# Altium footprint library IntegratedCircuitsFootprints.PcbLib: 5 footprints
Each footprint in its own frame and in the unit in brackets; x right, y up, seen from the top. Pads: shape width x height; smd on the part's side, far side on the other; paste and mask are expansions set on the pad; w line width, h text height; cw(c..) or ccw(c..) is an arc to the next point about the centre after c.
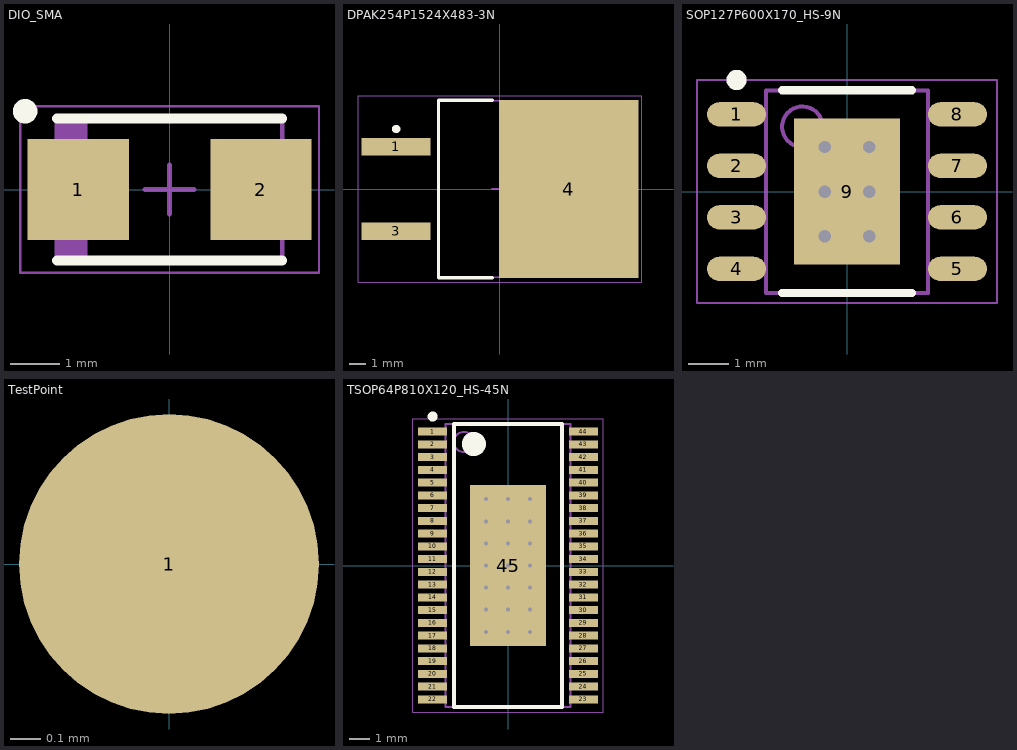
[diagram p0: the footprints below, top view; thin cyan lines are the x and y axes]

## DIO_SMA [mm] "Molded Diode, 2-Leads, Body 4.30x2.70mm, IPC Medium Density"
height 2.44
pads (2):
  rect 2.07x2.06 smd: 1(-1.865,0) 2(1.865,0)
Top Overlay:
  circle w0.25: c-2.95,1.6 r0.125
  lines w0.2: -2.3,-1.45 2.3,-1.45 ; -2.3,1.45 2.3,1.45
Mechanical 13:
  rectangle: -2.3,-1.45 -1.681,1.45
  lines w0.1: -2.3,-1.45 -2.3,1.45 2.3,1.45 2.3,-1.45 -2.3,-1.45
Mechanical 15:
  lines w0.05: -3.05,-1.7 -3.05,1.7 3.05,1.7 3.05,-1.7 -3.05,-1.7
  lines w0.1: -0.5,0 0.5,0 ; 0,-0.5 0,0.5
3D body "DIO_SMA.step": height 2.44, standoff 0, extent -2.52,-1.45 2.52,1.45

## DPAK254P1524X483-3N [mm] "D2-PAK, 3-Pads, Body 7.93x8.70mm (max), IPC Medium Density"
height 4.83
pads (3):
  rect 4.15x1.05 smd: 1(-6.25,2.54) 3(-6.25,-2.54)
  rect 8.4x10.75 smd: 4(4.15,0)
Top Overlay:
  circle w0.25: c-6.25,3.615 r0.125
  lines w0.2: -0.45,-5.35 -3.7,-5.35 -3.7,5.35 -0.45,5.35
Mechanical 13:
  lines w0.1: -3.7,-5.325 5.95,-5.325 5.95,5.325 -3.7,5.325 -3.7,-5.325
Mechanical 15:
  lines w0.05: -8.55,-5.625 8.55,-5.625 8.55,5.625 -8.55,5.625 -8.55,-5.625
  lines w0.1: -0.5,0 0.5,0 ; 0,-0.5 0,0.5
3D body "DPAK254P1524X483-3N.step": height 4.83, standoff 0, extent -7.405,-5.325 7.84,5.325

## SOP127P600X170_HS-9N [mm] "SOP, 8-Leads, Body 4.90x3.90mm, Pitch 1.27mm, Thermal Pad 3.60x2.61mm, IPC Medium Density"
height 1.7
pads (9):
  oval 1.45x0.6 smd: 1(-2.725,1.905) 2(-2.725,0.635) 3(-2.725,-0.635) 4(-2.725,-1.905) 5(2.725,-1.905) 6(2.725,-0.635) 7(2.725,0.635) 8(2.725,1.905)
  rect 2.61x3.6 smd: 9(0,0)
via -0.55,1.1 diameter 0.61 hole 0.305
via 0.55,1.1 diameter 0.61 hole 0.305
via -0.55,0 diameter 0.61 hole 0.305
via 0.55,0 diameter 0.61 hole 0.305
via -0.55,-1.1 diameter 0.61 hole 0.305
via 0.55,-1.1 diameter 0.61 hole 0.305
Top Overlay:
  circle w0.25: c-2.725,2.755 r0.125
  lines w0.2: -1.6,-2.5 1.6,-2.5 ; -1.6,2.5 1.6,2.5
Mechanical 13:
  circle w0.1: c-1.1,1.6 r0.5
  lines w0.1: -2,-2.5 -2,2.5 2,2.5 2,-2.5 -2,-2.5
Mechanical 15:
  lines w0.05: -3.7,-2.75 -3.7,2.75 3.7,2.75 3.7,-2.75 -3.7,-2.75
  lines w0.1: -0.5,0 0.5,0 ; 0,-0.5 0,0.5
3D body "SOP127P600X170_HS-9N.step": height 1.7, standoff 0, extent -3,-2.5 3,2.5

## TestPoint [mm] "1mm"
pads (1):
  round 1 smd mask+0: 1(0,0)

## TSOP64P810X120_HS-45N [mm] "TSOP, 44-Leads, Body 14.00x6.10mm, Pitch 0.64mm, Thermal Pad 8.00x3.80mm, IPC Medium Density"
height 1.2
pads (45):
  rect 1.45x0.4 smd: 1(-3.75,6.667) 2(-3.75,6.032) 3(-3.75,5.397) 4(-3.75,4.763) 5(-3.75,4.127) 6(-3.75,3.492) 7(-3.75,2.857) 8(-3.75,2.222) 9(-3.75,1.587) 10(-3.75,0.953) 11(-3.75,0.318) 12(-3.75,-0.318) 13(-3.75,-0.953) 14(-3.75,-1.587) 15(-3.75,-2.222) 16(-3.75,-2.857) 17(-3.75,-3.492) 18(-3.75,-4.127) 19(-3.75,-4.763) 20(-3.75,-5.397) 21(-3.75,-6.032) 22(-3.75,-6.667) 23(3.75,-6.667) 24(3.75,-6.032) 25(3.75,-5.397) 26(3.75,-4.763) 27(3.75,-4.127) 28(3.75,-3.492) 29(3.75,-2.857) 30(3.75,-2.222) 31(3.75,-1.587) 32(3.75,-0.953) 33(3.75,-0.318) 34(3.75,0.318) 35(3.75,0.953) 36(3.75,1.587) 37(3.75,2.222) 38(3.75,2.857) 39(3.75,3.492) 40(3.75,4.127) 41(3.75,4.763) 42(3.75,5.397) 43(3.75,6.032) 44(3.75,6.667)
  rect 3.8x8 smd: 45(0,0)
via -1.1,3.3 diameter 0.5 hole 0.2
via 0,3.3 diameter 0.5 hole 0.2
via 1.1,3.3 diameter 0.5 hole 0.2
via -1.1,2.2 diameter 0.5 hole 0.2
via 0,2.2 diameter 0.5 hole 0.2
via 1.1,2.2 diameter 0.5 hole 0.2
via -1.1,1.1 diameter 0.5 hole 0.2
via 0,1.1 diameter 0.5 hole 0.2
via 1.1,1.1 diameter 0.5 hole 0.2
via -1.1,0 diameter 0.5 hole 0.2
via 0,0 diameter 0.5 hole 0.2
via 1.1,0 diameter 0.5 hole 0.2
via -1.1,-1.1 diameter 0.5 hole 0.2
via 0,-1.1 diameter 0.5 hole 0.2
via 1.1,-1.1 diameter 0.5 hole 0.2
via -1.1,-2.2 diameter 0.5 hole 0.2
via 0,-2.2 diameter 0.5 hole 0.2
via 1.1,-2.2 diameter 0.5 hole 0.2
via -1.1,-3.3 diameter 0.5 hole 0.2
via 0,-3.3 diameter 0.5 hole 0.2
via 1.1,-3.3 diameter 0.5 hole 0.2
Top Overlay:
  circle w0.25: c-3.75,7.418 r0.125
  circle w0.6: c-1.7,6.05 r0.3
  lines w0.2: -2.7,-7.05 -2.7,7.05 2.7,7.05 2.7,-7.05 -2.7,-7.05
Mechanical 13:
  circle w0.1: c-2.2,6.15 r0.5
  lines w0.1: -3.1,-7.05 -3.1,7.05 3.1,7.05 3.1,-7.05 -3.1,-7.05
Mechanical 15:
  lines w0.05: -4.75,-7.3 -4.75,7.3 4.75,7.3 4.75,-7.3 -4.75,-7.3
  lines w0.1: -0.5,0 0.5,0 ; 0,-0.5 0,0.5
3D body "TSOP64P810X120_HS-45N.step": height 1.2, standoff 0, extent -4.05,-7.05 4.05,7.05